# Altium schematic symbol library MCP4921-E_P.Schlib: 1 symbol
Pins are listed as number, name and electrical type; pins without a type are passive.

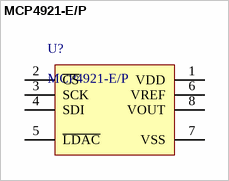
[diagram p0: symbol MCP4921-E/P]

## MCP4921-E/P
designator U?
12 Bit Digital to Analog Converter 1 8-PDIP
pins: 1 VDD, 2 ~{CS}, 3 SCK, 4 SDI, 5 ~{LDAC}, 6 VREF, 7 VSS, 8 VOUT